# EAGLE library part TPS7A4901_DGN_8 (library SensorCape)
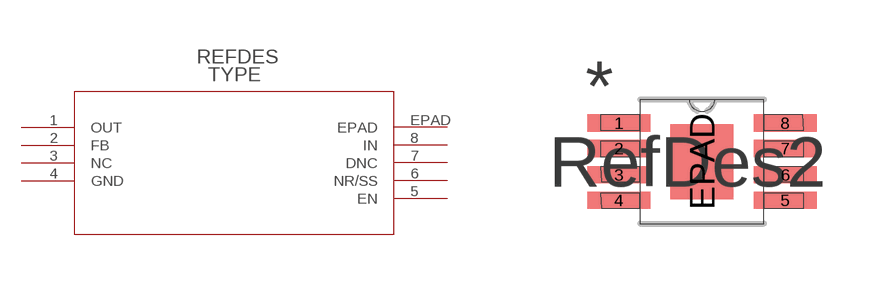
[diagram p19: symbol with the pads of DGN8_1P89X1P57; footprint DGN8_1P89X1P57]

Designator prefix U

## TPS7A4901_DGN_8  [DGN8_1P89X1P57]
1  OUT  pas
2  FB  pas
3  NC  pas
4  GND  pas
5  EN  pas
6  NR/SS  pas
7  DNC  pas
8  IN  pas
EPAD  EPAD  pas

## Footprint DGN8_1P89X1P57 (pad centres in mm)
smd 1.575 x 0.432: 1 -2.083,0.965; 2 -2.083,0.33; 3 -2.083,-0.33; 4 -2.083,-0.965; 5 2.083,-0.965; 6 2.083,-0.33; 7 2.083,0.33; 8 2.083,0.965
smd 1.575 x 1.88: EPAD 0,0